# EAGLE library part W5200 (library IC)
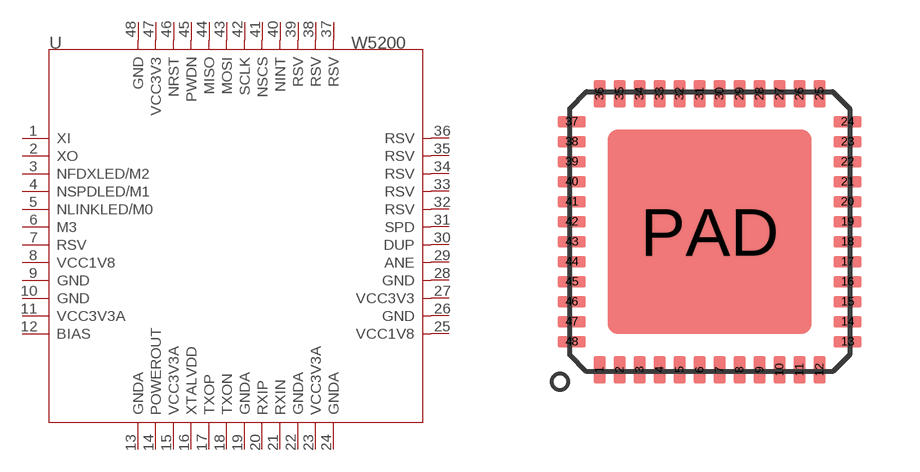
[diagram p65: symbol with the pads of QFN48; footprint QFN48]

Designator prefix U

## W5200  [QFN48]
1  XI  in
2  XO  out
3  NFDXLED/M2  in
4  NSPDLED/M1  in
5  NLINKLED/M0  in
6  M3  in
7  RSV
8  VCC1V8  sup
9  GND  sup
10  GND  sup
11  VCC3V3A  sup
12  BIAS  out
13  GNDA  sup
14  POWEROUT  out
15  VCC3V3A  sup
16  XTALVDD  in
17  TXOP  out
18  TXON  out
19  GNDA  sup
20  RXIP  in
21  RXIN  in
22  GNDA  sup
23  VCC3V3A  sup
24  GNDA  sup
25  VCC1V8  sup
26  GND  sup
27  VCC3V3  sup
28  GND  sup
29  ANE  in
30  DUP  in
31  SPD  in
32  RSV
33  RSV
34  RSV
35  RSV
36  RSV
37  RSV
38  RSV
39  RSV
40  NINT  out
41  NSCS  in
42  SCLK  in
43  MOSI  in
44  MISO  out
45  PWDN  in
46  NRST  in
47  VCC3V3  sup
48  GND  sup

## Footprint QFN48 (pad centres in mm)
smd 0.3 x 0.7: 1 -2.75,-3.45; 2 -2.25,-3.45; 3 -1.75,-3.45; 4 -1.25,-3.45; 5 -0.75,-3.45; 6 -0.25,-3.45; 7 0.25,-3.45; 8 0.75,-3.45; 9 1.25,-3.45; 10 1.75,-3.45; 11 2.25,-3.45; 12 2.75,-3.45; 25 2.75,3.45; 26 2.25,3.45; 27 1.75,3.45; 28 1.25,3.45; 29 0.75,3.45; 30 0.25,3.45; 31 -0.25,3.45; 32 -0.75,3.45; 33 -1.25,3.45; 34 -1.75,3.45; 35 -2.25,3.45; 36 -2.75,3.45
smd 0.7 x 0.3: 13 3.45,-2.75; 14 3.45,-2.25; 15 3.45,-1.75; 16 3.45,-1.25; 17 3.45,-0.75; 18 3.45,-0.25; 19 3.45,0.25; 20 3.45,0.75; 21 3.45,1.25; 22 3.45,1.75; 23 3.45,2.25; 24 3.45,2.75; 37 -3.45,2.75; 38 -3.45,2.25; 39 -3.45,1.75; 40 -3.45,1.25; 41 -3.45,0.75; 42 -3.45,0.25; 43 -3.45,-0.25; 44 -3.45,-0.75; 45 -3.45,-1.25; 46 -3.45,-1.75; 47 -3.45,-2.25; 48 -3.45,-2.75
smd 5.1 x 5.1: PAD 0,0